# Altium footprint library DIOAD1586W101L900D530.PcbLib: 1 footprints
Each footprint in its own frame and in the unit in brackets; x right, y up, seen from the top. Pads: shape width x height; smd on the part's side, far side on the other; paste and mask are expansions set on the pad; w line width, h text height; cw(c..) or ccw(c..) is an arc to the next point about the centre after c.
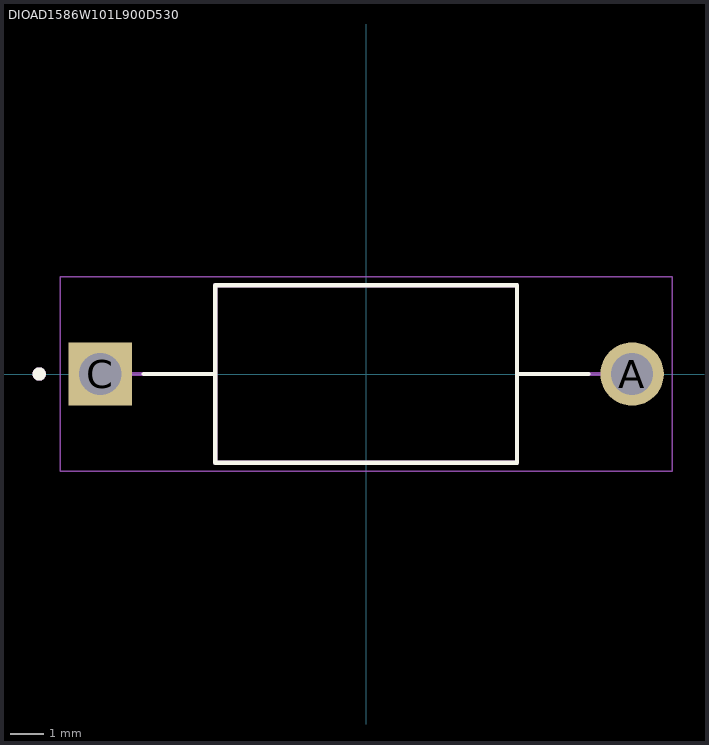
[diagram p0: the footprint, top view; thin cyan lines are the x and y axes]

## DIOAD1586W101L900D530 [mm]
height 5.6
pads (2):
  round 1.89 hole 1.26: A(7.93,0)
  rect 1.89x1.89 / inner round 1.89 / far side rect 1.89x1.89 hole 1.26: C(-7.93,0)
Top Overlay:
  circle w0.2: c-9.75,0 r0.1
  lines w0.127: -6.63,0 -4.5,0 ; 6.63,0 4.5,0 ; -4.5,0 -4.5,2.65 4.5,2.65 4.5,0 ; -4.5,0 -4.5,-2.65 4.5,-2.65 4.5,0
Assembly Top:
  circle w0.2: c-9.75,0 r0.1
  lines w0.127: -7.93,0 -4.5,0 ; 7.93,0 4.5,0 ; -4.5,0 -4.5,2.65 4.5,2.65 4.5,0 ; -4.5,0 -4.5,-2.65 4.5,-2.65 4.5,0
Courtyard Top:
  lines w0.05: -9.125,-2.9 -9.125,2.9 9.125,2.9 9.125,-2.9 -9.125,-2.9
3D body "step_temp.STEP": height 2.7, standoff -2.7, extent 0,-2.7 62.5,2.7